# EAGLE library part DRV8212 (library Bits_library_eagle 9x)
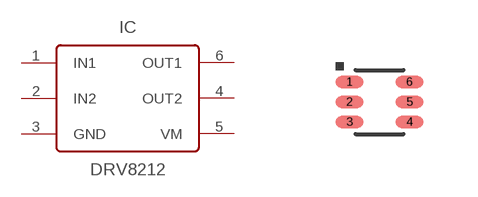
[diagram p56: symbol with the pads of SOT-5X3_0.6MM; footprint SOT-5X3_0.6MM]

Designator prefix IC

## DRV8212DRL  [SOT-5X3_0.6MM]
1  IN1
2  IN2
3  GND  pwr
4  OUT2  pas
5  VM  pwr
6  OUT1  pas

## Footprint SOT-5X3_0.6MM (pad centres in mm)
smd 0.7 x 0.3: 1 -0.75,0.5; 2 -0.75,0; 3 -0.75,-0.5; 4 0.75,-0.5; 5 0.75,0; 6 0.75,0.5